# Altium footprint library Net-Tie-Top.PcbLib: 50 footprints (part 4 of 4)
Each footprint in its own frame and in the unit in brackets; x right, y up, seen from the top. Pads: shape width x height; smd on the part's side, far side on the other; paste and mask are expansions set on the pad; w line width, h text height; cw(c..) or ccw(c..) is an arc to the next point about the centre after c.
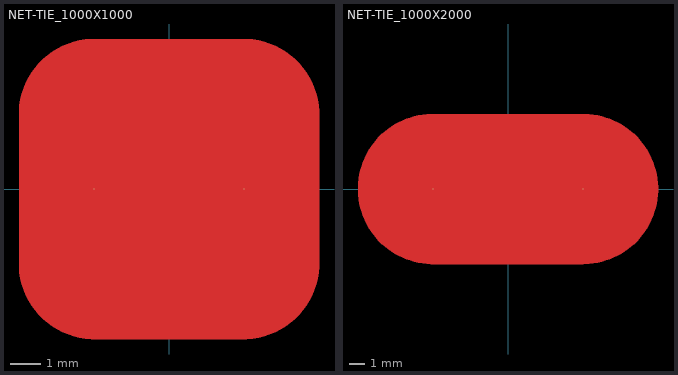
[diagram p3: the footprints below, top view; thin cyan lines are the x and y axes]

## NET-TIE_1000X1000 [mil]
pads (2):
  round 1 smd paste-99999 mask+4: 1(-98.43,0) 2(98.43,0)
Top Layer:
  region: -196.85,-98.43 -196.85,-102.29 -196.24,-110 -195.03,-117.64 -193.23,-125.16 -190.84,-132.52 -187.88,-139.66 -184.37,-146.55 -180.33,-153.15 -175.78,-159.41 -170.76,-165.29 -165.29,-170.76 -159.41,-175.78 -153.15,-180.33 -146.55,-184.37 -139.66,-187.88 -132.52,-190.84 -125.16,-193.23 -117.64,-195.03 -110,-196.24 -102.29,-196.85 -98.43,-196.85 0,-196.85 0,196.85 -98.43,196.85 -102.29,196.85 -110,196.24 -117.64,195.03 -125.16,193.23 -132.52,190.84 -139.66,187.88 -146.55,184.37 -153.15,180.33 -159.41,175.78 -165.29,170.76 -170.76,165.29 -175.78,159.41 -180.33,153.15 -184.37,146.55 -187.88,139.66 -190.84,132.52 -193.23,125.16 -195.03,117.64 -196.24,110 -196.85,102.29 -196.85,98.43
  region: 98.43,-196.85 0,-196.85 0,196.85 98.43,196.85 102.29,196.85 110,196.24 117.64,195.03 125.16,193.23 132.52,190.84 139.66,187.88 146.55,184.37 153.15,180.33 159.41,175.78 165.29,170.76 170.76,165.29 175.78,159.41 180.33,153.15 184.37,146.55 187.88,139.66 190.84,132.52 193.23,125.16 195.03,117.64 196.24,110 196.85,102.29 196.85,98.43 196.85,-98.43 196.85,-102.29 196.24,-110 195.03,-117.64 193.23,-125.16 190.84,-132.52 187.88,-139.66 184.37,-146.55 180.33,-153.15 175.78,-159.41 170.76,-165.29 165.29,-170.76 159.41,-175.78 153.15,-180.33 146.55,-184.37 139.66,-187.88 132.52,-190.84 125.16,-193.23 117.64,-195.03 110,-196.24 102.29,-196.85

## NET-TIE_1000X2000 [mil]
pads (2):
  round 1 smd paste-99999 mask+4: 1(-196.85,0) 2(196.85,0)
Top Layer:
  region: -196.85,-196.85 -202.37,-196.85 -213.4,-196.23 -224.38,-194.99 -235.27,-193.14 -246.04,-190.69 -256.65,-187.63 -267.08,-183.98 -277.28,-179.75 -287.24,-174.96 -296.9,-169.62 -306.26,-163.74 -315.27,-157.35 -323.9,-150.46 -332.14,-143.1 -339.95,-135.29 -347.31,-127.05 -354.2,-118.42 -360.59,-109.41 -366.47,-100.05 -371.81,-90.39 -376.6,-80.43 -380.83,-70.23 -384.48,-59.8 -387.54,-49.19 -389.99,-38.42 -391.84,-27.53 -393.08,-16.55 -393.7,-5.52 -393.7,0 -393.7,5.52 -393.08,16.55 -391.84,27.53 -389.99,38.42 -387.54,49.19 -384.48,59.8 -380.83,70.23 -376.6,80.43 -371.81,90.39 -366.47,100.05 -360.59,109.41 -354.2,118.42 -347.31,127.05 -339.95,135.29 -332.14,143.1 -323.9,150.46 -315.27,157.35 -306.26,163.74 -296.9,169.62 -287.24,174.96 -277.28,179.75 -267.08,183.98 -256.65,187.63 -246.04,190.69 -235.27,193.14 -224.38,194.99 -213.4,196.23 -202.37,196.85 -196.85,196.85 0,196.85 0,-196.85
  region: 196.85,-196.85 0,-196.85 0,196.85 196.85,196.85 202.37,196.85 213.4,196.23 224.38,194.99 235.27,193.14 246.04,190.69 256.65,187.63 267.08,183.98 277.28,179.75 287.24,174.96 296.9,169.62 306.26,163.74 315.27,157.35 323.9,150.46 332.14,143.1 339.95,135.29 347.31,127.05 354.2,118.42 360.59,109.41 366.47,100.05 371.81,90.39 376.6,80.43 380.83,70.23 384.48,59.8 387.54,49.19 389.99,38.42 391.84,27.53 393.08,16.55 393.7,5.52 393.7,0 393.7,-5.52 393.08,-16.55 391.84,-27.53 389.99,-38.42 387.54,-49.19 384.48,-59.8 380.83,-70.23 376.6,-80.43 371.81,-90.39 366.47,-100.05 360.59,-109.41 354.2,-118.42 347.31,-127.05 339.95,-135.29 332.14,-143.1 323.9,-150.46 315.27,-157.35 306.26,-163.74 296.9,-169.62 287.24,-174.96 277.28,-179.75 267.08,-183.98 256.65,-187.63 246.04,-190.69 235.27,-193.14 224.38,-194.99 213.4,-196.23 202.37,-196.85